# EAGLE library part LM2664M6 (library MCP1623)
Switched Capacitor Voltage Converter
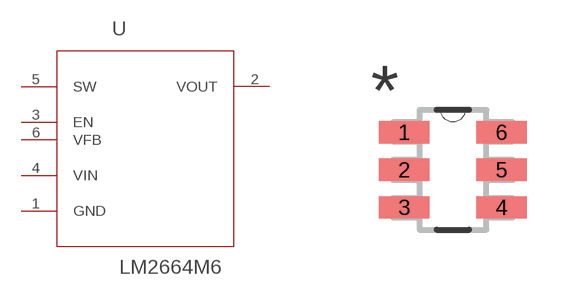
[diagram p0: symbol with the pads of SOT95P300X120-6N; footprint SOT95P300X120-6N]

Designator prefix U

## LM2664M6 (MPN: LM2664M6; OC_FARNELL: 9779671; OC_NEWARK: -; PACKAGE: SOT-23-6; SUPPLIER: NATIONAL SEMICONDUCTOR)  [SOT95P300X120-6N]
1  GND  pas
2  VOUT  out
3  EN  in
4  VIN  in
5  SW  pwr
6  VFB  in

## Footprint SOT95P300X120-6N (pad centres in mm)
smd 1.27 x 0.559: 1 -1.219,0.94; 2 -1.219,0; 3 -1.219,-0.94; 4 1.219,-0.94; 5 1.219,0; 6 1.219,0.94